# EAGLE library part 1-1734592-4 (library 1-1734592-4)
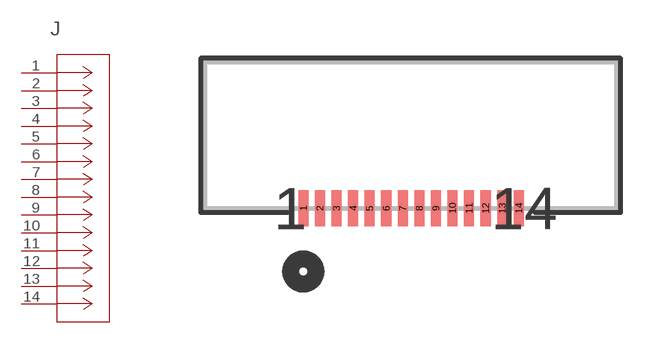
[diagram p0: symbol with the pads of CONN_1-1734592-4_TYCO; footprint CONN_1-1734592-4_TYCO]

Designator prefix J

## 1-1734592-4 (COPYRIGHT: Copyright (C) 2024 Ultra Librarian. All rights reserved.; MANUFACTURER_PART_NUMBER: 1-1734592-4; MFR_NAME: TE Connectivity)  [CONN_1-1734592-4_TYCO]
1  1  pas
2  2  pas
3  3  pas
4  4  pas
5  5  pas
6  6  pas
7  7  pas
8  8  pas
9  9  pas
10  10  pas
11  11  pas
12  12  pas
13  13  pas
14  14  pas

## Footprint CONN_1-1734592-4_TYCO (pad centres in mm)
smd 0.305 x 1.092: 1 0,0; 2 0.5,0; 3 1,0; 4 1.5,0; 5 2,0; 6 2.5,0; 7 3,0; 8 3.5,0; 9 4,0; 10 4.5,0; 11 5,0; 12 5.5,0; 13 6,0; 14 6.5,0